# Altium footprint library MOLEX_530481410.PcbLib: 1 footprints
Each footprint in its own frame and in the unit in brackets; x right, y up, seen from the top. Pads: shape width x height; smd on the part's side, far side on the other; paste and mask are expansions set on the pad; w line width, h text height; cw(c..) or ccw(c..) is an arc to the next point about the centre after c.
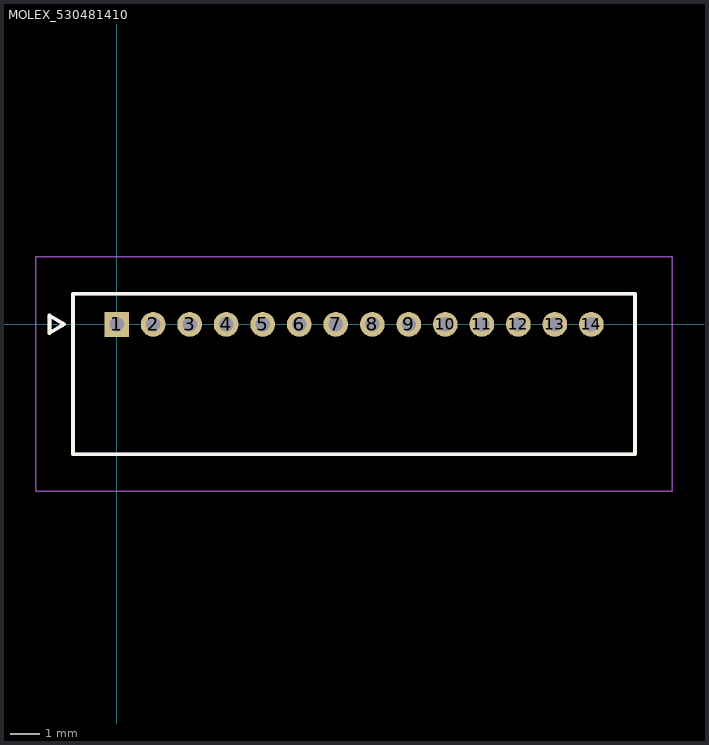
[diagram p0: the footprint, top view; thin cyan lines are the x and y axes]

## MOLEX_530481410 [mm]
height 3.5
pads (14):
  rect 0.85x0.85 / inner round 0.85 / far side rect 0.85x0.85 hole 0.5 mask+0.076: 1(0,0)
  round 0.85 hole 0.5 mask+0.076: 2(1.25,0) 3(2.5,0) 4(3.75,0) 5(5,0) 6(6.25,0) 7(7.5,0) 8(8.75,0) 9(10,0) 10(11.25,0) 11(12.5,0) 12(13.75,0) 13(15,0) 14(16.25,0)
Top Overlay:
  lines w0.127: -2.3,-0.3 -2.3,0.3 -1.8,0 -2.3,-0.3 ; -1.5,-4.45 17.75,-4.45 17.75,1.05 -1.5,1.05 -1.5,-4.45
Mechanical 13:
  lines w0.127: -2.3,-0.3 -2.3,0.3 -1.8,0 -2.3,-0.3 ; -1.5,-4.45 17.75,-4.45 17.75,1.05 -1.5,1.05 -1.5,-4.45
  text "PTH D0.5 +/- 0.05" at -2.5,-9.5 h0.5
Mechanical 15:
  lines w0.05: -2.77,-5.72 19.02,-5.72 19.02,2.32 -2.77,2.32 -2.77,-5.72